# EAGLE library part HARWIN_2X10 (library DSDEagleLibrary)
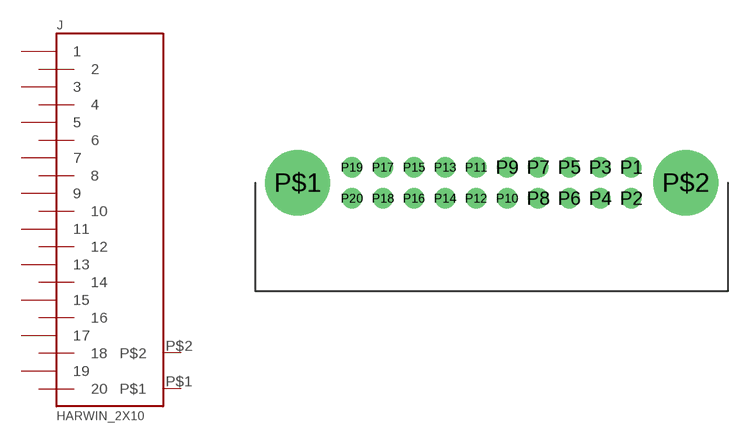
[diagram p19: symbol with the pads of HARWIN_2X10; footprint HARWIN_2X10]

Designator prefix J

## HARWIN_2X10  [HARWIN_2X10]
P1  1
P2  2
P3  3
P4  4
P5  5
P6  6
P7  7
P8  8
P9  9
P10  10
P11  11
P12  12
P13  13
P14  14
P15  15
P16  16
P17  17
P18  18
P19  19
P20  20
P$1  P$1
P$2  P$2

## Footprint HARWIN_2X10 (pad centres in mm)
drill 0.8: P1 9,1; P2 9,-1; P3 7,1; P4 7,-1; P5 5,1; P6 5,-1; P7 3,1; P8 3,-1; P9 1,1; P10 1,-1; P11 -1,1; P12 -1,-1; P13 -3,1; P14 -3,-1; P15 -5,1; P16 -5,-1; P17 -7,1; P18 -7,-1; P19 -9,1; P20 -9,-1
drill 2.2 pad 4.2: P$1 -12.5,0; P$2 12.5,0